# Altium schematic symbol library STM8S103Fx.SchLib: 1 symbol
Pins are listed as number, name and electrical type; pins without a type are passive.

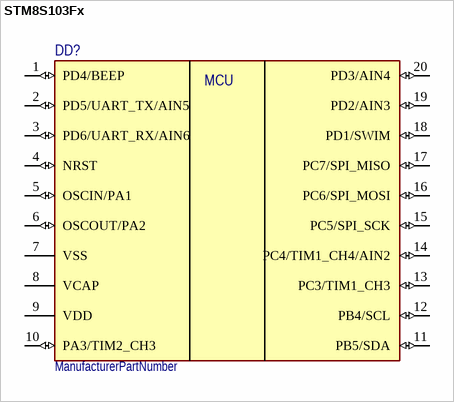
[diagram p0: symbol STM8S103Fx]

## STM8S103Fx
designator DD?  (value not drawn)
ManufacturerPartNumber: ManufacturerPartNumber
pins: 1 PD4/BEEP (io), 2 PD5/UART_TX/AIN5 (io), 3 PD6/UART_RX/AIN6 (io), 4 NRST (io), 5 OSCIN/PA1 (io), 6 OSCOUT/PA2 (io), 7 VSS (power), 8 VCAP (power), 9 VDD (power), 10 PA3/TIM2_CH3 (io), 11 PB5/SDA (io), 12 PB4/SCL (io), 13 PC3/TIM1_CH3 (io), 14 PC4/TIM1_CH4/AIN2 (io), 15 PC5/SPI_SCK (io), 16 PC6/SPI_MOSI (io), 17 PC7/SPI_MISO (io), 18 PD1/SWIM (io), 19 PD2/AIN3 (io), 20 PD3/AIN4 (io)
text: MCU